# EAGLE library part TB6612FNG (library mylib)
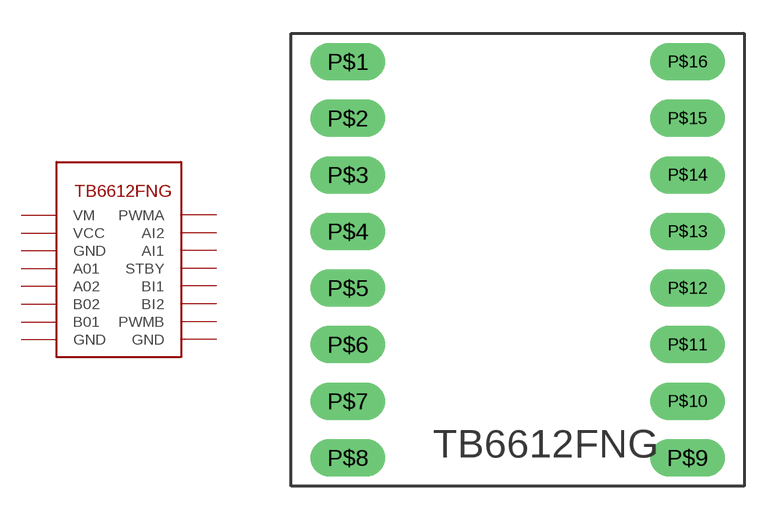
[diagram p0: symbol with the pads of TB6612FNG; footprint TB6612FNG]

Designator prefix -

## TB6612FNG  [TB6612FNG]
P$1  VM
P$2  VCC
P$3  GND
P$4  A01
P$5  A02
P$6  B02
P$7  B01
P$8  GND
P$9  GND
P$10  PWMB
P$11  BI2
P$12  BI1
P$13  STBY
P$14  AI1
P$15  AI2
P$16  PWMA

## Footprint TB6612FNG (pad centres in mm)
drill 0.6 pad 1.676 long: P$1 -7.62,10.16; P$2 -7.62,7.62; P$3 -7.62,5.08; P$4 -7.62,2.54; P$5 -7.62,0; P$6 -7.62,-2.54; P$7 -7.62,-5.08; P$8 -7.62,-7.62; P$9 7.62,-7.62; P$10 7.62,-5.08; P$11 7.62,-2.54; P$12 7.62,0; P$13 7.62,2.54; P$14 7.62,5.08; P$15 7.62,7.62; P$16 7.62,10.16